# Altium footprint library IR2110STRPBF.PcbLib: 3 footprints
Each footprint in its own frame and in the unit in brackets; x right, y up, seen from the top. Pads: shape width x height; smd on the part's side, far side on the other; paste and mask are expansions set on the pad; w line width, h text height; cw(c..) or ccw(c..) is an arc to the next point about the centre after c.
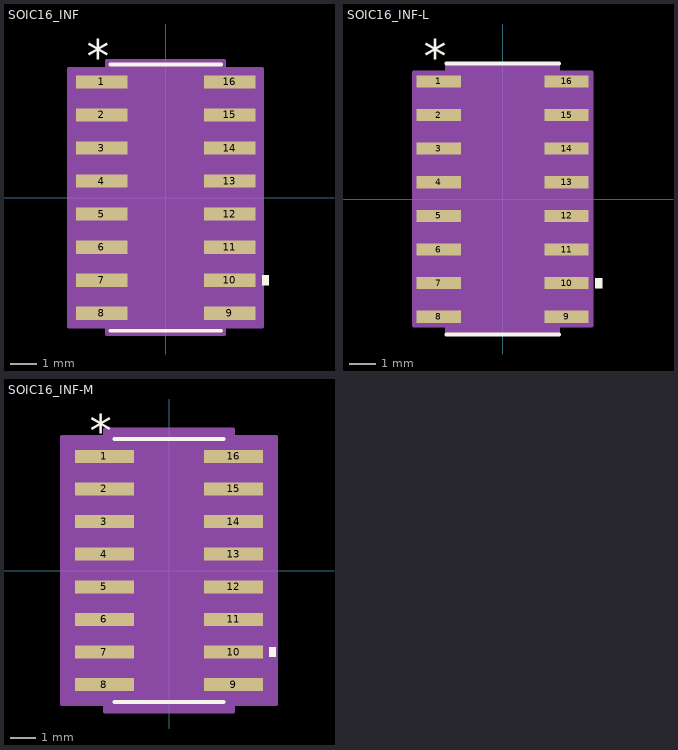
[diagram p0: the footprints below, top view; thin cyan lines are the x and y axes]

## SOIC16_INF [mil]
pads (16):
  rect 78x20 smd paste+0 mask+0: 1(-97,175) 2(-97,125) 3(-97,75) 4(-97,25) 5(-97,-25) 6(-97,-75) 7(-97,-125) 8(-97,-175) 9(97,-175) 10(97,-125) 11(97,-75) 12(97,-25) 13(97,25) 14(97,75) 15(97,125) 16(97,175)
Top Overlay:
  region: 146,-117.5 156,-117.5 156,-132.5 146,-132.5
  lines w6: -83.5,-201.5 83.5,-201.5 ; -83.5,201.5 83.5,201.5
  text "*" at -119.5,190 h50
Mechanical 13:
  lines w0: -12,196.5 ccw(c0,196.5) 12,196.5
  lines w1: -122,-184 -122,-166 -78.5,-166 -78.5,-184 -122,-184 ; -122,-134 -122,-116 -78.5,-116 -78.5,-134 -122,-134 ; -122,-84 -122,-66 -78.5,-66 -78.5,-84 -122,-84 ; -122,-34 -122,-16 -78.5,-16 -78.5,-34 -122,-34 ; -122,16 -122,34 -78.5,34 -78.5,16 -122,16 ; -122,66 -122,84 -78.5,84 -78.5,66 -122,66 ; -122,116 -122,134 -78.5,134 -78.5,116 -122,116 ; -122,166 -122,184 -78.5,184 -78.5,166 -122,166 ; -78.5,-196.5 78.5,-196.5 78.5,196.5 -78.5,196.5 -78.5,-196.5 ; 78.5,-184 78.5,-166 122,-166 122,-184 78.5,-184 ; 78.5,-134 78.5,-116 122,-116 122,-134 78.5,-134 ; 78.5,-84 78.5,-66 122,-66 122,-84 78.5,-84 ; 78.5,-34 78.5,-16 122,-16 122,-34 78.5,-34 ; 78.5,16 78.5,34 122,34 122,16 78.5,16 ; 78.5,66 78.5,84 122,84 122,66 78.5,66 ; 78.5,116 78.5,134 122,134 122,116 78.5,116 ; 78.5,166 78.5,184 122,184 122,166 78.5,166
  text "*" at -76,143.5 h50
Mechanical 15:
  region: -88.5,-195 -146,-195 -146,195 -88.5,195 -88.5,206.5 88.5,206.5 88.5,195 146,195 146,-195 88.5,-195 88.5,-206.5 -88.5,-206.5
  lines w6: -146,-195 -146,195 -88.5,195 -88.5,206.5 88.5,206.5 88.5,195 146,195 146,-195 88.5,-195 88.5,-206.5 -88.5,-206.5 -88.5,-195 -146,-195
3D body "SOIC16_INF.step": height 69.09, standoff 0, extent -122.01,-196.5 122.01,196.5

## SOIC16_INF-L [mil]
pads (16):
  rect 66x18 smd paste+0 mask+0: 1(-95,175) 2(-95,125) 3(-95,75) 4(-95,25) 5(-95,-25) 6(-95,-75) 7(-95,-125) 8(-95,-175) 9(95,-175) 10(95,-125) 11(95,-75) 12(95,-25) 13(95,25) 14(95,75) 15(95,125) 16(95,175)
Top Overlay:
  region: 138,-117.5 148,-117.5 148,-132.5 138,-132.5
  lines w6: -83.5,-201.5 83.5,-201.5 ; -83.5,201.5 83.5,201.5
  text "*" at -117.5,188 h50
Mechanical 13:
  lines w0: -12,196.5 ccw(c0,196.5) 12,196.5
  lines w1: -122,-184 -122,-166 -78.5,-166 -78.5,-184 -122,-184 ; -122,-134 -122,-116 -78.5,-116 -78.5,-134 -122,-134 ; -122,-84 -122,-66 -78.5,-66 -78.5,-84 -122,-84 ; -122,-34 -122,-16 -78.5,-16 -78.5,-34 -122,-34 ; -122,16 -122,34 -78.5,34 -78.5,16 -122,16 ; -122,66 -122,84 -78.5,84 -78.5,66 -122,66 ; -122,116 -122,134 -78.5,134 -78.5,116 -122,116 ; -122,166 -122,184 -78.5,184 -78.5,166 -122,166 ; -78.5,-196.5 78.5,-196.5 78.5,196.5 -78.5,196.5 -78.5,-196.5 ; 78.5,-184 78.5,-166 122,-166 122,-184 78.5,-184 ; 78.5,-134 78.5,-116 122,-116 122,-134 78.5,-134 ; 78.5,-84 78.5,-66 122,-66 122,-84 78.5,-84 ; 78.5,-34 78.5,-16 122,-16 122,-34 78.5,-34 ; 78.5,16 78.5,34 122,34 122,16 78.5,16 ; 78.5,66 78.5,84 122,84 122,66 78.5,66 ; 78.5,116 78.5,134 122,134 122,116 78.5,116 ; 78.5,166 78.5,184 122,184 122,166 78.5,166
  text "*" at -76,143.5 h50
Mechanical 15:
  region: -82.5,-188 -132,-188 -132,188 -82.5,188 -82.5,200.5 82.5,200.5 82.5,188 132,188 132,-188 82.5,-188 82.5,-200.5 -82.5,-200.5
  lines w6: -132,-188 -132,188 -82.5,188 -82.5,200.5 82.5,200.5 82.5,188 132,188 132,-188 82.5,-188 82.5,-200.5 -82.5,-200.5 -82.5,-188 -132,-188
3D body "SOIC16_INF.step": height 69.09, standoff 0, extent -122.01,-196.5 122.01,196.5

## SOIC16_INF-M [mil]
pads (16):
  rect 90x20 smd paste+0 mask+0: 1(-99,175) 2(-99,125) 3(-99,75) 4(-99,25) 5(-99,-25) 6(-99,-75) 7(-99,-125) 8(-99,-175) 9(99,-175) 10(99,-125) 11(99,-75) 12(99,-25) 13(99,25) 14(99,75) 15(99,125) 16(99,175)
Top Overlay:
  region: 154,-117.5 164,-117.5 164,-132.5 154,-132.5
  lines w6: -83.5,-201.5 83.5,-201.5 ; -83.5,201.5 83.5,201.5
  text "*" at -121.5,190 h50
Mechanical 13:
  lines w0: -12,196.5 ccw(c0,196.5) 12,196.5
  lines w1: -122,-184 -122,-166 -78.5,-166 -78.5,-184 -122,-184 ; -122,-134 -122,-116 -78.5,-116 -78.5,-134 -122,-134 ; -122,-84 -122,-66 -78.5,-66 -78.5,-84 -122,-84 ; -122,-34 -122,-16 -78.5,-16 -78.5,-34 -122,-34 ; -122,16 -122,34 -78.5,34 -78.5,16 -122,16 ; -122,66 -122,84 -78.5,84 -78.5,66 -122,66 ; -122,116 -122,134 -78.5,134 -78.5,116 -122,116 ; -122,166 -122,184 -78.5,184 -78.5,166 -122,166 ; -78.5,-196.5 78.5,-196.5 78.5,196.5 -78.5,196.5 -78.5,-196.5 ; 78.5,-184 78.5,-166 122,-166 122,-184 78.5,-184 ; 78.5,-134 78.5,-116 122,-116 122,-134 78.5,-134 ; 78.5,-84 78.5,-66 122,-66 122,-84 78.5,-84 ; 78.5,-34 78.5,-16 122,-16 122,-34 78.5,-34 ; 78.5,16 78.5,34 122,34 122,16 78.5,16 ; 78.5,66 78.5,84 122,84 122,66 78.5,66 ; 78.5,116 78.5,134 122,134 122,116 78.5,116 ; 78.5,166 78.5,184 122,184 122,166 78.5,166
  text "*" at -76,143.5 h50
Mechanical 15:
  region: -98.5,-205 -164,-205 -164,205 -98.5,205 -98.5,216.5 98.5,216.5 98.5,205 164,205 164,-205 98.5,-205 98.5,-216.5 -98.5,-216.5
  lines w6: -164,-205 -164,205 -98.5,205 -98.5,216.5 98.5,216.5 98.5,205 164,205 164,-205 98.5,-205 98.5,-216.5 -98.5,-216.5 -98.5,-205 -164,-205
3D body "SOIC16_INF.step": height 69.09, standoff 0, extent -122.01,-196.5 122.01,196.5